# Altium footprint library XKZ.PcbLib: 10 footprints
Each footprint in its own frame and in the unit in brackets; x right, y up, seen from the top. Pads: shape width x height; smd on the part's side, far side on the other; paste and mask are expansions set on the pad; w line width, h text height; cw(c..) or ccw(c..) is an arc to the next point about the centre after c.
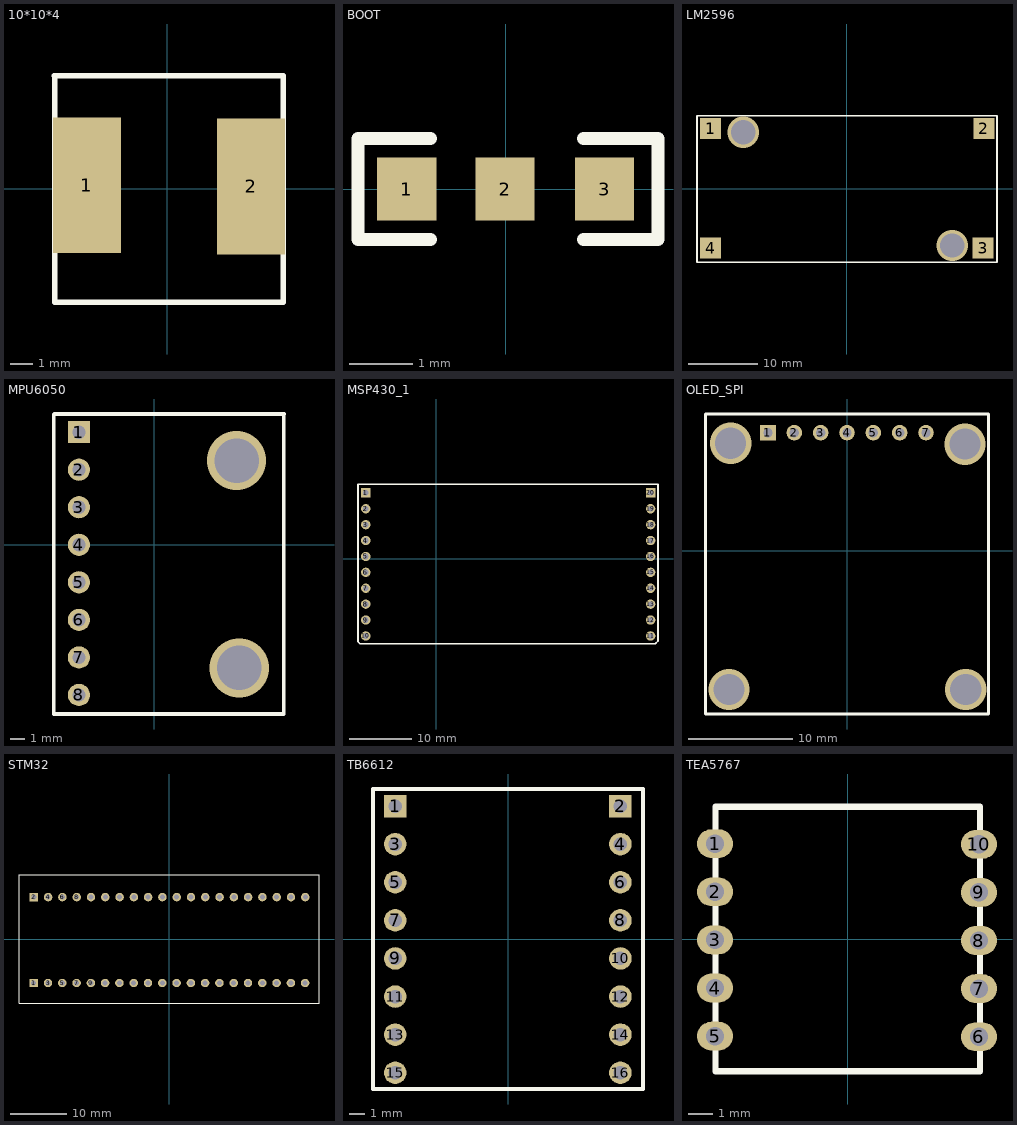
[diagram p0: the footprints below, top view; thin cyan lines are the x and y axes]

## 10*10*4 [mm]
pads (2):
  rect 3x6 smd: 1(-3.556,0.152) 2(3.708,0.102)
Top Overlay:
  lines w0.254: -5,5 5.131,5 5.131,-5.025 -4.975,-5.025 -4.975,4.975

## BOOT [mm]
pads (3):
  rect 0.93x0.98 smd: 1(-1.549,0) 2(-0.009,0) 3(1.549,0)
Top Overlay:
  lines w0.2: -1.179,-0.79 -2.314,-0.79 -2.314,0.79 -1.179,0.79 ; 1.219,-0.79 2.388,-0.79 2.388,0.79 1.219,0.79
3D body: height 0.56, standoff 0, extent -0.862,-0.4 0.838,0.4

## LM2596 [mm]
pads (4):
  rect 3x3 smd: 1(-19.558,8.636) 2(19.685,8.636) 3(19.558,-8.509) 4(-19.558,-8.509)
via 15.113,-8.128 diameter 4.5 hole 3.5
via -14.859,8.128 diameter 4.5 hole 3.5
Top Overlay:
  lines w0.254: -21.5,-10.5 -21.5,10.5 21.5,10.5 ; -21.463,-10.541 21.537,-10.541 ; 21.553,-10.5 21.553,10.5

## MPU6050 [mm]
pads (8):
  rect 1.5x1.5 hole 0.9: 1(-5.08,7.62)
  round 1.5 hole 0.9: 2(-5.08,5.08) 3(-5.08,2.54) 4(-5.08,0) 5(-5.08,-2.54) 6(-5.08,-5.08) 7(-5.08,-7.62) 8(-5.08,-10.16)
via 5.588,5.69 diameter 4 hole 3
via 5.766,-8.331 diameter 4 hole 3
Top Overlay:
  lines w0.254: -6.782,8.814 -6.782,-11.448 8.778,-11.448 8.778,8.814 ; -6.756,8.846 8.803,8.846

## MSP430_1 [mm]
pads (20):
  rect 1.5x1.5 hole 0.9: 1(-11.252,10.541) 20(34.252,10.541)
  round 1.5 hole 0.9: 2(-11.252,8.001) 3(-11.252,5.461) 4(-11.252,2.921) 5(-11.252,0.381) 6(-11.252,-2.159) 7(-11.252,-4.699) 8(-11.252,-7.239) 9(-11.252,-9.779) 10(-11.252,-12.319) 11(34.252,-12.319) 12(34.252,-9.779) 13(34.252,-7.239) 14(34.252,-4.699) 15(34.252,-2.159) 16(34.252,0.381) 17(34.252,2.921) 18(34.252,5.461) 19(34.252,8.001)
Top Overlay:
  lines w0.254: -12.497,-13.259 -12.497,11.913 35.433,11.913 35.433,-13.132 35.001,-13.564 -12.192,-13.564 -12.497,-13.259

## OLED_SPI [mm]
pads (7):
  rect 1.5x1.5 hole 0.9: 1(-7.62,11.4)
  round 1.5 hole 0.9: 2(-5.08,11.405) 3(-2.54,11.405) 4(0,11.405) 5(2.54,11.405) 6(5.08,11.405) 7(7.62,11.405)
via -11.227,10.389 diameter 4 hole 3
via -11.379,-13.36 diameter 4 hole 3
via 11.455,-13.36 diameter 4 hole 3
via 11.379,10.312 diameter 4 hole 3
Top Overlay:
  lines w0.254: -13.65,-15.723 13.65,-15.723 13.65,13.208 -13.65,13.208 -13.65,-15.723

## PCBComponent_1 - duplicate [mm]

## STM32 [mm]
pads (40):
  rect 1.5x1.5 hole 0.9: 1(-24.054,-7.823) 2(-24.028,7.442)
  round 1.5 hole 0.9: 3(-21.514,-7.823) 4(-21.488,7.442) 5(-18.974,-7.823) 6(-18.948,7.442) 7(-16.434,-7.823) 8(-16.408,7.442) 9(-13.894,-7.823) 10(-13.868,7.442) 11(-11.354,-7.823) 12(-11.328,7.442) 13(-8.814,-7.823) 14(-8.788,7.442) 15(-6.274,-7.823) 16(-6.248,7.442) 17(-3.734,-7.823) 18(-3.708,7.442) 19(-1.194,-7.823) 20(-1.168,7.442) 21(1.346,-7.823) 22(1.372,7.442) 23(3.886,-7.823) 24(3.912,7.442) 25(6.426,-7.823) 26(6.452,7.442) 27(8.966,-7.823) 28(8.992,7.442) 29(11.506,-7.823) 30(11.532,7.442) 31(14.046,-7.823) 32(14.072,7.442) 33(16.586,-7.823) 34(16.612,7.442) 35(19.126,-7.823) 36(19.152,7.442) 37(21.666,-7.823) 38(21.692,7.442) 39(24.206,-7.823) 40(24.232,7.442)
Top Overlay:
  lines w0.2: -26.67,-11.43 -26.67,11.43 26.67,11.43 26.67,-11.43 -26.67,-11.43

## TB6612 [mm]
pads (16):
  rect 1.5x1.5 hole 0.9: 1(-7.518,8.865) 2(7.493,8.865)
  round 1.5 hole 0.9: 3(-7.518,6.325) 4(7.493,6.325) 5(-7.518,3.785) 6(7.493,3.785) 7(-7.518,1.245) 8(7.493,1.245) 9(-7.518,-1.295) 10(7.493,-1.295) 11(-7.518,-3.835) 12(7.493,-3.835) 13(-7.518,-6.375) 14(7.493,-6.375) 15(-7.518,-8.915) 16(7.493,-8.915)
Top Overlay:
  lines w0.254: -9,-10 9,-10 9,10 -9,10 -9,-10

## TEA5767 [mil]
pads (10):
  oval 59.06x47.24 hole 30: 1(-217,156) 2(-217,77.26) 3(-217,-1.48) 4(-217,-80.22) 5(-217,-158.96) 6(215,-159.96) 7(215,-81.22) 8(215,-2.48) 9(215,76.26) 10(215,155)
Top Overlay:
  lines w10: 216.46,-216.54 216.46,216.54 ; 216.54,-216.54 -216.54,-216.54 -216.54,216.54 216.54,216.54